# EAGLE library part NRF24L01P (library DMF-TimerProject)
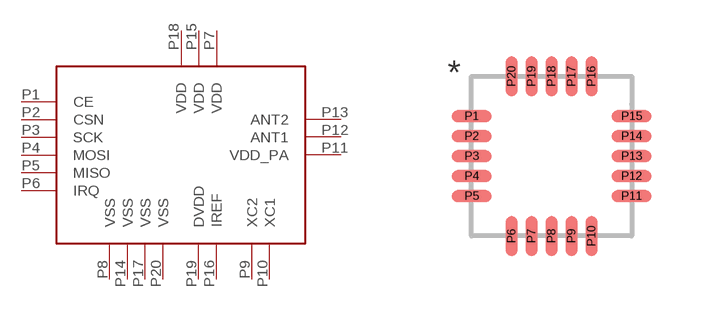
[diagram p1: symbol with the pads of NRF24L01P; footprint NRF24L01P]

Designator prefix -

## NRF24L01P  [NRF24L01P]
P1  CE
P2  CSN
P3  SCK
P4  MOSI
P5  MISO
P6  IRQ
P7  VDD
P8  VSS
P9  XC2
P10  XC1
P11  VDD_PA
P12  ANT1
P13  ANT2
P14  VSS
P15  VDD
P16  IREF
P17  VSS
P18  VDD
P19  DVDD
P20  VSS

## Footprint NRF24L01P (pad centres in mm)
smd 1 x 0.3: P1 -2,1; P2 -2,0.5; P3 -2,0; P4 -2,-0.5; P5 -2,-1; P11 2,-1; P12 2,-0.5; P13 2,0; P14 2,0.5; P15 2,1
smd 0.3 x 1: P6 -1,-2; P7 -0.5,-2; P8 0,-2; P9 0.5,-2; P10 1,-2; P16 1,2; P17 0.5,2; P18 0,2; P19 -0.5,2; P20 -1,2